# EAGLE library part 7760_MIN (library HP5082)
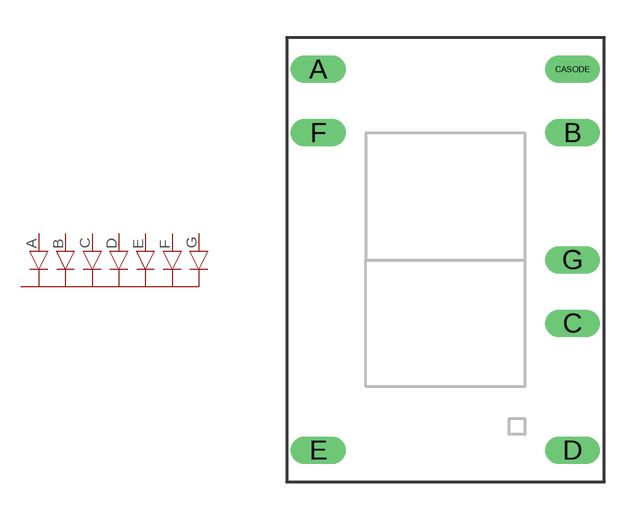
[diagram p1: symbol with the pads of 7760_MIN; footprint 7760_MIN]

Designator prefix -

## 7760_MIN  [7760_MIN]
A  A
B  B
C  C
CASODE  CASODE
D  D
E  E
F  F
G  G

## Footprint 7760_MIN (pad centres in mm)
drill 0.6 long: A -5.08,7.62; B 5.08,5.08; C 5.08,-2.54; CASODE 5.08,7.62; D 5.08,-7.62; E -5.08,-7.62; F -5.08,5.08; G 5.08,0